# Altium schematic symbol library BMP085.SchLib: 1 symbol
Pins are listed as number, name and electrical type; pins without a type are passive.

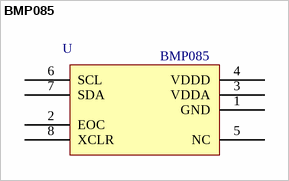
[diagram p0: symbol BMP085]

## BMP085
designator U  value BMP085  (hidden comment: *)
pins: 1 GND, 2 EOC, 3 VDDA, 4 VDDD, 5 NC, 6 SCL, 7 SDA, 8 XCLR